# Altium footprint library Misc.PcbLib: 6 footprints
Each footprint in its own frame and in the unit in brackets; x right, y up, seen from the top. Pads: shape width x height; smd on the part's side, far side on the other; paste and mask are expansions set on the pad; w line width, h text height; cw(c..) or ccw(c..) is an arc to the next point about the centre after c.
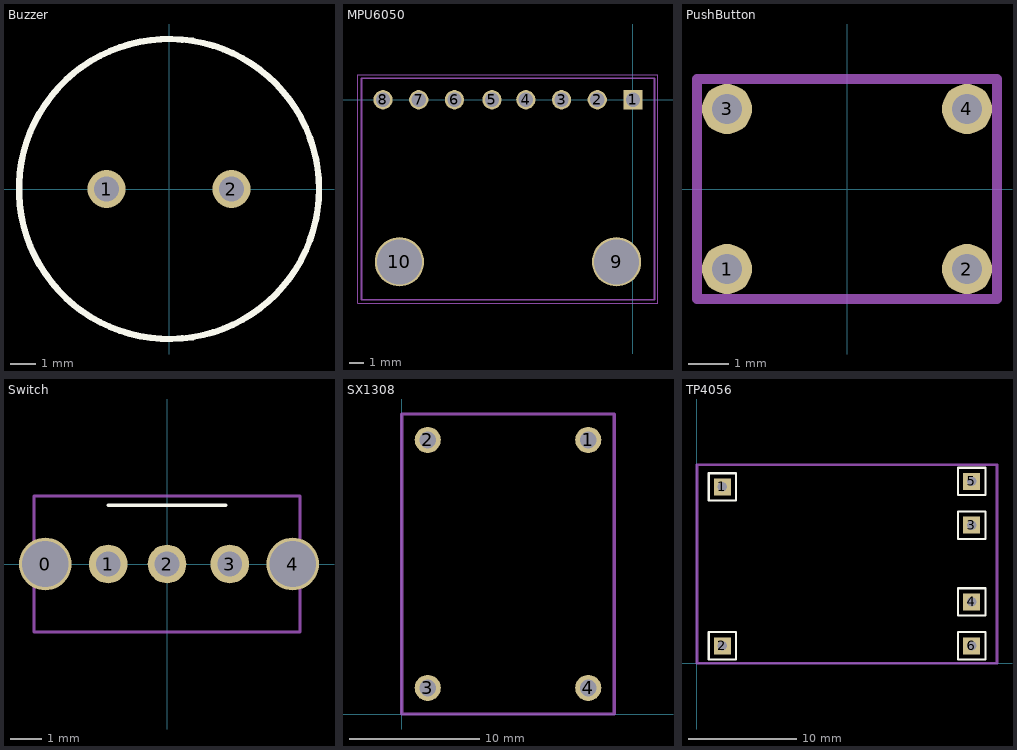
[diagram p0: the footprints below, top view; thin cyan lines are the x and y axes]

## Buzzer [mm]
pads (2):
  round 1.524 hole 1: 1(-2.5,0) 2(2.5,0)
Top Overlay:
  circle w0.254: c0,0 r6

## MPU6050 [mm]
pads (10):
  rect 1.37x1.37 hole 1.02: 1(0,0)
  round 1.37 hole 1.02: 2(-2.54,0) 3(-5.08,0) 4(-7.62,0) 5(-10.033,0) 6(-12.7,0) 7(-15.24,0) 8(-17.78,0)
  round 3.5 hole 3.2: 9(-1.171,-11.529) 10(-16.609,-11.529)
Mechanical 13:
  lines w0.127: -19.304,-2.54 -19.304,1.524 ; 1.524,-2.54 1.524,1.524 ; -19.304,1.524 1.524,1.524 ; -19.304,1.524 -19.304,-14.224 1.524,-14.224 1.524,1.524 ; -19.304,1.524 1.524,1.524
Mechanical 15:
  lines w0.05: -19.558,-14.478 -19.558,1.778 1.778,1.778 1.778,-14.478 -19.558,-14.478

## PushButton [mm]
pads (4):
  round 1.25 hole 0.762: 1(-3,-2) 2(3,-2) 3(-3,2) 4(3,2)
Mechanical 13:
  lines w0.254: -3.75,-2.75 3.75,-2.75 3.75,2.75 -3.75,2.75 -3.75,-2.75

## Switch [mm]
pads (5):
  round 1.7 hole 1.5: 0(-3.937,0) 4(4.064,0)
  round 1.25 hole 0.8: 1(-1.905,0) 2(0,0) 3(2.032,0)
Top Overlay:
  lines w0.1: -1.9,1.9 1.9,1.9
Mechanical 13:
  lines w0.1: -4.3,-2.2 4.3,-2.2 4.3,2.2 -4.3,2.2 -4.3,-2.2

## SX1308 [mm]
pads (4):
  round 2 hole 1.3: 1(14.3,21) 2(2,21) 3(2,2) 4(14.3,2)
Mechanical 1:
  lines w0.254: 0,0 16.3,0 16.3,22.987 0,22.987 0,0

## TP4056 [mil]
pads (6):
  rect 62x62 hole 35: 1(94.31,644.58) 2(94.31,64.58) 3(1004.31,504.58) 4(1004.31,224.58) 5(1004.31,664.58) 6(1004.31,64.58)
Top Overlay:
  lines w7.99: 144.31,14.58 144.31,39.58 ; 144.31,594.58 144.31,619.58 ; 1054.31,14.58 1054.31,39.58 ; 1054.31,174.58 1054.31,199.58 ; 1054.31,454.58 1054.31,479.58 ; 1054.31,614.58 1054.31,639.58
  lines w8: 144.31,14.58 44.31,14.58 44.31,114.58 144.31,114.58 144.31,39.58 ; 144.31,594.58 44.31,594.58 44.31,694.58 144.31,694.58 144.31,619.58 ; 1054.31,14.58 954.31,14.58 954.31,114.58 1054.31,114.58 1054.31,39.58 ; 1054.31,174.58 954.31,174.58 954.31,274.58 1054.31,274.58 1054.31,199.58 ; 1054.31,454.58 954.31,454.58 954.31,554.58 1054.31,554.58 1054.31,479.58 ; 1054.31,614.58 954.31,614.58 954.31,714.58 1054.31,714.58 1054.31,639.58
Mechanical 13:
  lines w10: 1.53,0.53 1096.53,0.53 1096.53,725.53 1.53,725.53 1.53,0.53